# EAGLE library part SI4463-C2A (library SI4463-C2A-GM)
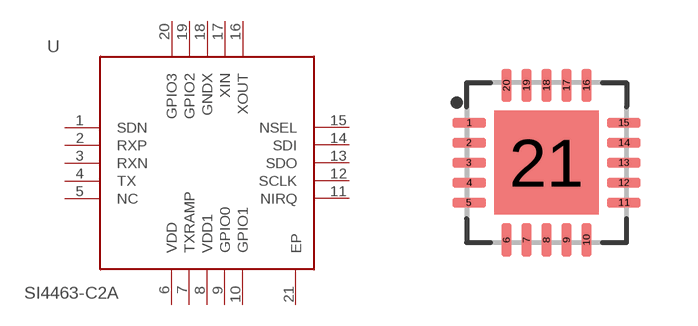
[diagram p0: symbol with the pads of QFN50P400X400X90-20N; footprint QFN50P400X400X90-20N]

Designator prefix -

## SI4463-C2A  [QFN50P400X400X90-20N]
1  SDN
2  RXP
3  RXN
4  TX
5  NC
6  VDD
7  TXRAMP
8  VDD1
9  GPIO0
10  GPIO1
11  NIRQ
12  SCLK
13  SDO
14  SDI
15  NSEL
16  XOUT
17  XIN
18  GNDX
19  GPIO2
20  GPIO3
21  EP

## Footprint QFN50P400X400X90-20N (pad centres in mm)
smd 0.84 x 0.26: 1 -1.935,1; 2 -1.935,0.5; 3 -1.935,0; 4 -1.935,-0.5; 5 -1.935,-1; 11 1.935,-1; 12 1.935,-0.5; 13 1.935,0; 14 1.935,0.5; 15 1.935,1
smd 0.26 x 0.84: 6 -1,-1.935; 7 -0.5,-1.935; 8 0,-1.935; 9 0.5,-1.935; 10 1,-1.935; 16 1,1.935; 17 0.5,1.935; 18 0,1.935; 19 -0.5,1.935; 20 -1,1.935
smd 2.6 x 2.6: 21 0,0